# EAGLE library part SWD-10 (library mbed-HDK)
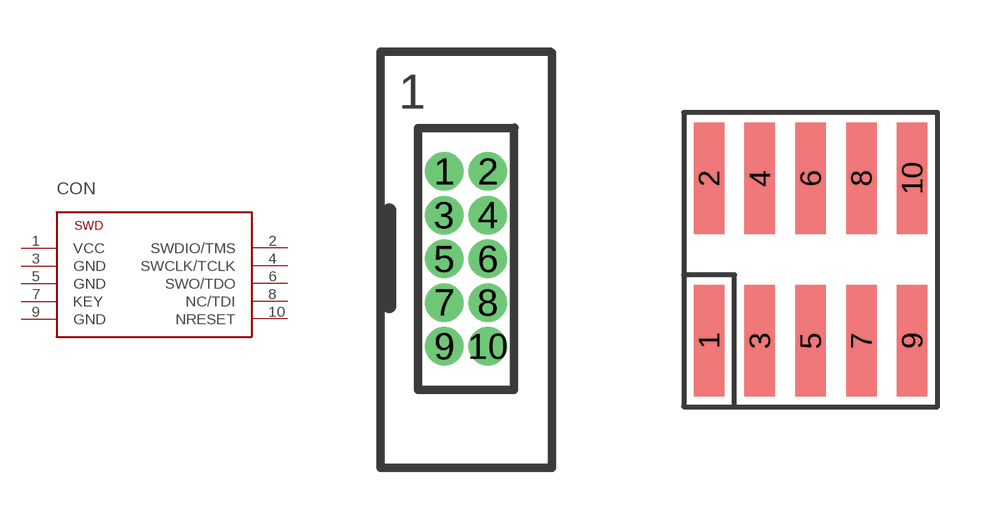
[diagram p0: symbol with the pads of SWD-10-PTH; footprints SWD-10-PTH, SWD-10-SMD]

Designator prefix CON

## SWD-10-PTH  [SWD-10-PTH]
1  VCC
2  SWDIO/TMS
3  GND
4  SWCLK/TCLK
5  GND
6  SWO/TDO
7  KEY
8  NC/TDI
9  GND
10  NRESET

## SWD-10-SMD  [SWD-10-SMD]
Pads as for SWD-10-PTH

## Footprint SWD-10-PTH (pad centres in mm)
drill 0.61 pad 0.9: 1 0,0; 2 1.27,0; 3 0,-1.27; 4 1.27,-1.27; 5 0,-2.54; 6 1.27,-2.54; 7 0,-3.81; 8 1.27,-3.81; 9 0,-5.08; 10 1.27,-5.08

## Footprint SWD-10-SMD (pad centres in mm)
smd 0.762 x 2.794: 1 0.381,-2.032; 2 0.381,2.032; 3 1.651,-2.032; 4 1.651,2.032; 5 2.921,-2.032; 6 2.921,2.032; 7 4.191,-2.032; 8 4.191,2.032; 9 5.461,-2.032; 10 5.461,2.032